# Altium footprint library microusb.PcbLib: 1 footprints
Each footprint in its own frame and in the unit in brackets; x right, y up, seen from the top. Pads: shape width x height; smd on the part's side, far side on the other; paste and mask are expansions set on the pad; w line width, h text height; cw(c..) or ccw(c..) is an arc to the next point about the centre after c.
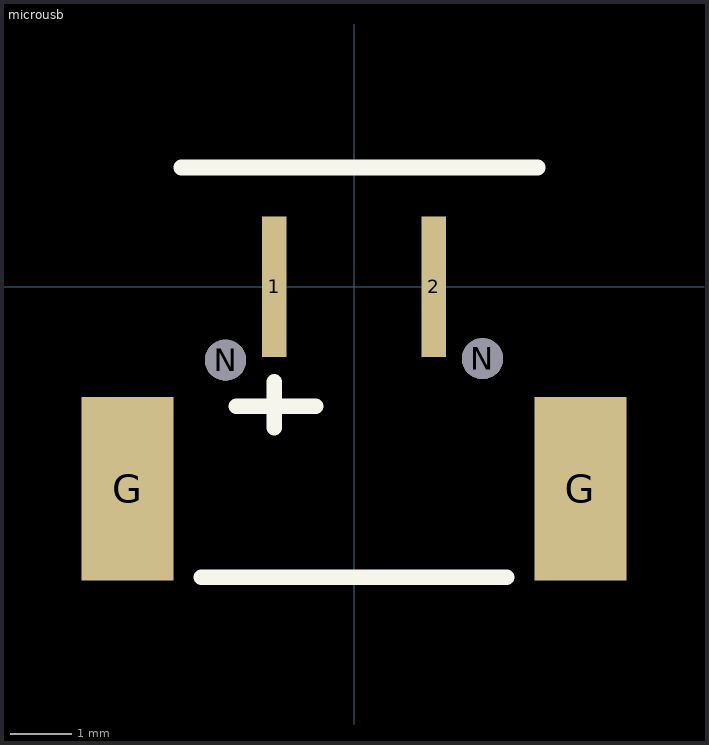
[diagram p0: the footprint, top view; thin cyan lines are the x and y axes]

## microusb [mm]
pads (6):
  rect 0.4x2.3 smd: 1(-1.3,0) 2(1.3,0)
  rect 1.5x3 smd: G(-3.7,-3.3) G(3.7,-3.3)
  round 0.67 hole 0.67: N(-2.1,-1.2) N(2.1,-1.175)
Top Overlay:
  lines w0.254: -2.825,1.95 3,1.95 ; -2.5,-4.75 2.5,-4.75 ; -1.925,-1.95 -0.625,-1.95 ; -1.3,-2.3 -1.3,-1.55